# Altium schematic symbol library PJ-002A.SchLib: 2 symbols
Pins are listed as number, name and electrical type; pins without a type are passive.

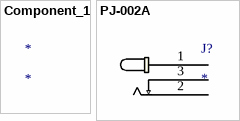
[diagram p0: symbols Component_1 to PJ-002A]

## Component_1
designator *

## PJ-002A
designator J?
No Description Available; Mfr_Name: CUI Devices; RefDes: RefDes; Type: Type
footprint PJ-002A_CUD
pins: 1, 2, 3